# EAGLE library part SKY13415-485LF (library SamacSys_Parts)
RF Switch ICs 100-3000MHz SP5T IL .45dB Iso >31dB Source: Datasheet <https://datasheet.datasheetarchive.com/originals/distributors/DKDS-19/379227.pdf>
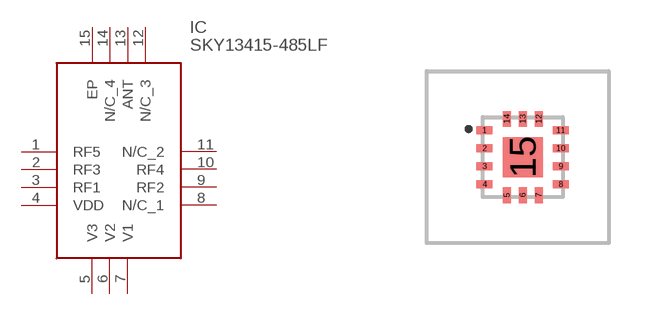
[diagram p2: symbol with the pads of SKY13415485LF; footprint SKY13415485LF]

Designator prefix IC

## SKY13415-485LF (Description: RF Switch ICs 100-3000MHz SP5T IL .45dB Iso >31dB; Height: 0.65mm; Manufacturer_Name: Skyworks; Manufacturer_Part_Number: SKY13415-485LF; Mouser_Part_Number: 873-SKY13415-485LF; Mouser_Price-Stock: https://www.mouser.co.uk/ProductDetail/Skyworks-Solutions-Inc/SKY13415-485LF?qs=aD6bdfC8ElPZ66ZJrc0H4g%3D%3D)  [SKY13415485LF]
1  RF5
2  RF3
3  RF1
4  VDD
5  V3
6  V2
7  V1
8  N/C_1
9  RF2
10  RF4
11  N/C_2
12  N/C_3
13  ANT
14  N/C_4
15  EP

## Footprint SKY13415485LF (pad centres in mm)
SKY13415-485LF-1
smd 0.395 x 0.2: 1 -0.953,0.675; 2 -0.953,0.225; 3 -0.953,-0.225; 4 -0.953,-0.675; 8 0.953,-0.675; 9 0.953,-0.225; 10 0.953,0.225; 11 0.953,0.675
smd 0.2 x 0.395: 5 -0.4,-0.953; 6 0,-0.953; 7 0.4,-0.953; 12 0.4,0.953; 13 0,0.953; 14 -0.4,0.953
smd 1 x 1: 15 0,0